# EAGLE library part 750319034 (library Wurth_Power Magnetics_WE-POE++)
WE-PoE++ Power over Ethernet Plus Plus Transformer Characteristics Suitable for CCM Flyback or Active Clamp Forward Different power levels up to 95W Frequency range: 250-400 kHz Different output voltages available Custom designs available Applications Telecom Industrial Applications WLAN Access Point Safety cameras Intelligent LED Lighting Networks <https://www.we-online.com/components/media/o721702v209%20FAMILY-MID-POE%2B%2B.jpg> Details see: www.we-online.com/en/components/products/WE-POE-PLUS-PLUS <www.we-online.com/catalog/WE-POE-PLUS-PLUS/?utm_source=eagle_model&utm_medium=description_link&utm_campaign=eisos_eagle> Created by Ella 2024-01-30 2024(C) Wurth Elektronik
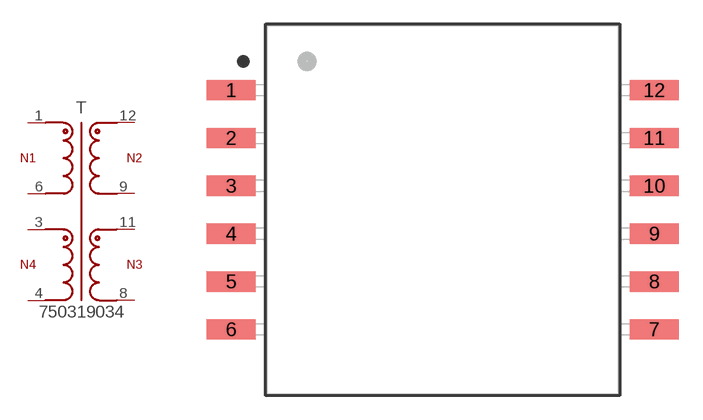
[diagram p4: symbol with the pads of WE-POE++_EFD20_L29.65W21.8H11.43; footprint WE-POE++_EFD20_L29.65W21.8H11.43]

Designator prefix T

## 750319034 (DATASHEET-URL: https://www.we-online.com/redexpert/spec/750319034?ae; IO1: 6A; L: 66uH; N: 1.6:1:1:1; PART-NUMBER: 750319034; SIZE: EFD20; VALUE: 750319034; VAUX: 12V; VERSION: Active Clamp Forward; VIN: 33 - 57 V (DC); VO1: 12V; VT: 1500V(AC))  [WE-POE++_EFD20_L29.65W21.8H11.43]
1  1  pas
3  3  pas
4  4  pas
6  6  pas
8  8  pas
9  9  pas
11  11  pas
12  12  pas

## Footprint WE-POE++_EFD20_L29.65W21.8H11.43 (pad centres in mm)
WE-PoE++ Power over Ethernet Plus Plus Transformer Size: EFD20, SMT, 12Pins LXWXH=29.65X21.8X11.43mm
smd 3.05 x 1.27: 1 -13.26,7.5; 2 -13.26,4.5; 3 -13.26,1.5; 4 -13.26,-1.5; 5 -13.26,-4.5; 6 -13.26,-7.5; 7 13.26,-7.5; 8 13.26,-4.5; 9 13.26,-1.5; 10 13.26,1.5; 11 13.26,4.5; 12 13.26,7.5